# Altium footprint library SOD-323.PcbLib: 1 footprints
Each footprint in its own frame and in the unit in brackets; x right, y up, seen from the top. Pads: shape width x height; smd on the part's side, far side on the other; paste and mask are expansions set on the pad; w line width, h text height; cw(c..) or ccw(c..) is an arc to the next point about the centre after c.
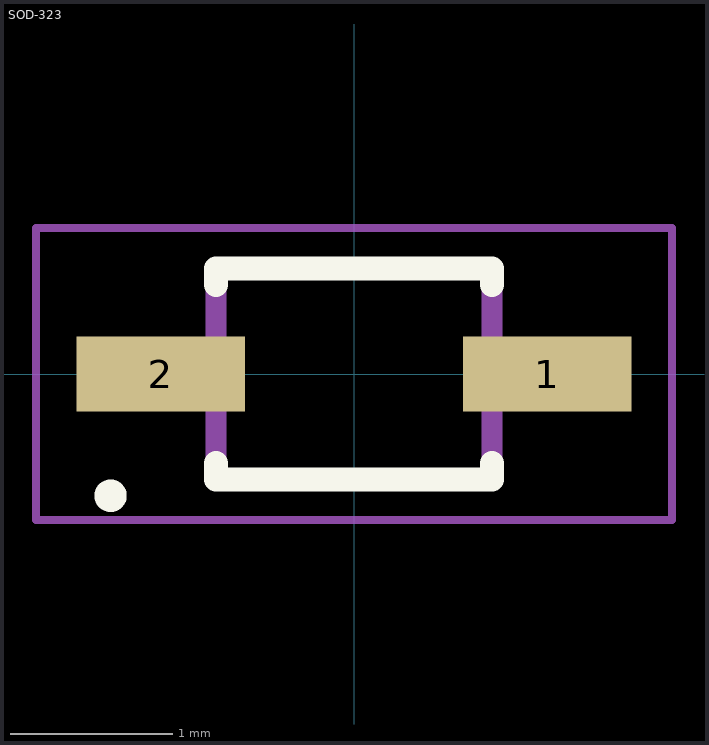
[diagram p0: the footprint, top view; thin cyan lines are the x and y axes]

## SOD-323 [mm]
height 1.2
pads (2):
  rect 1.04x0.46 smd: 1(1.19,0) 2(-1.19,0)
Top Overlay:
  circle w0.1: c-1.5,-0.75 r0.05
  lines w0.15: -0.85,-0.55 -0.85,-0.65 0.85,-0.65 0.85,-0.55 ; -0.85,0.55 -0.85,0.65 0.85,0.65 0.85,0.55
Mechanical 13:
  lines w0.127: -0.85,-0.65 -0.85,0.65 0.85,0.65 0.85,-0.65 -0.85,-0.65
Mechanical 15:
  lines w0.05: -1.96,-0.9 1.96,-0.9 1.96,0.9 -1.96,0.9 -1.96,-0.9
3D body "1N4148WS-7-F.STEP": height 1.2, standoff 0, extent -1.25,-0.65 1.25,0.65